# Altium footprint library STEM_PCB.PcbLib: 50 footprints (part 2 of 4)
Each footprint in its own frame and in the unit in brackets; x right, y up, seen from the top. Pads: shape width x height; smd on the part's side, far side on the other; paste and mask are expansions set on the pad; w line width, h text height; cw(c..) or ccw(c..) is an arc to the next point about the centre after c.
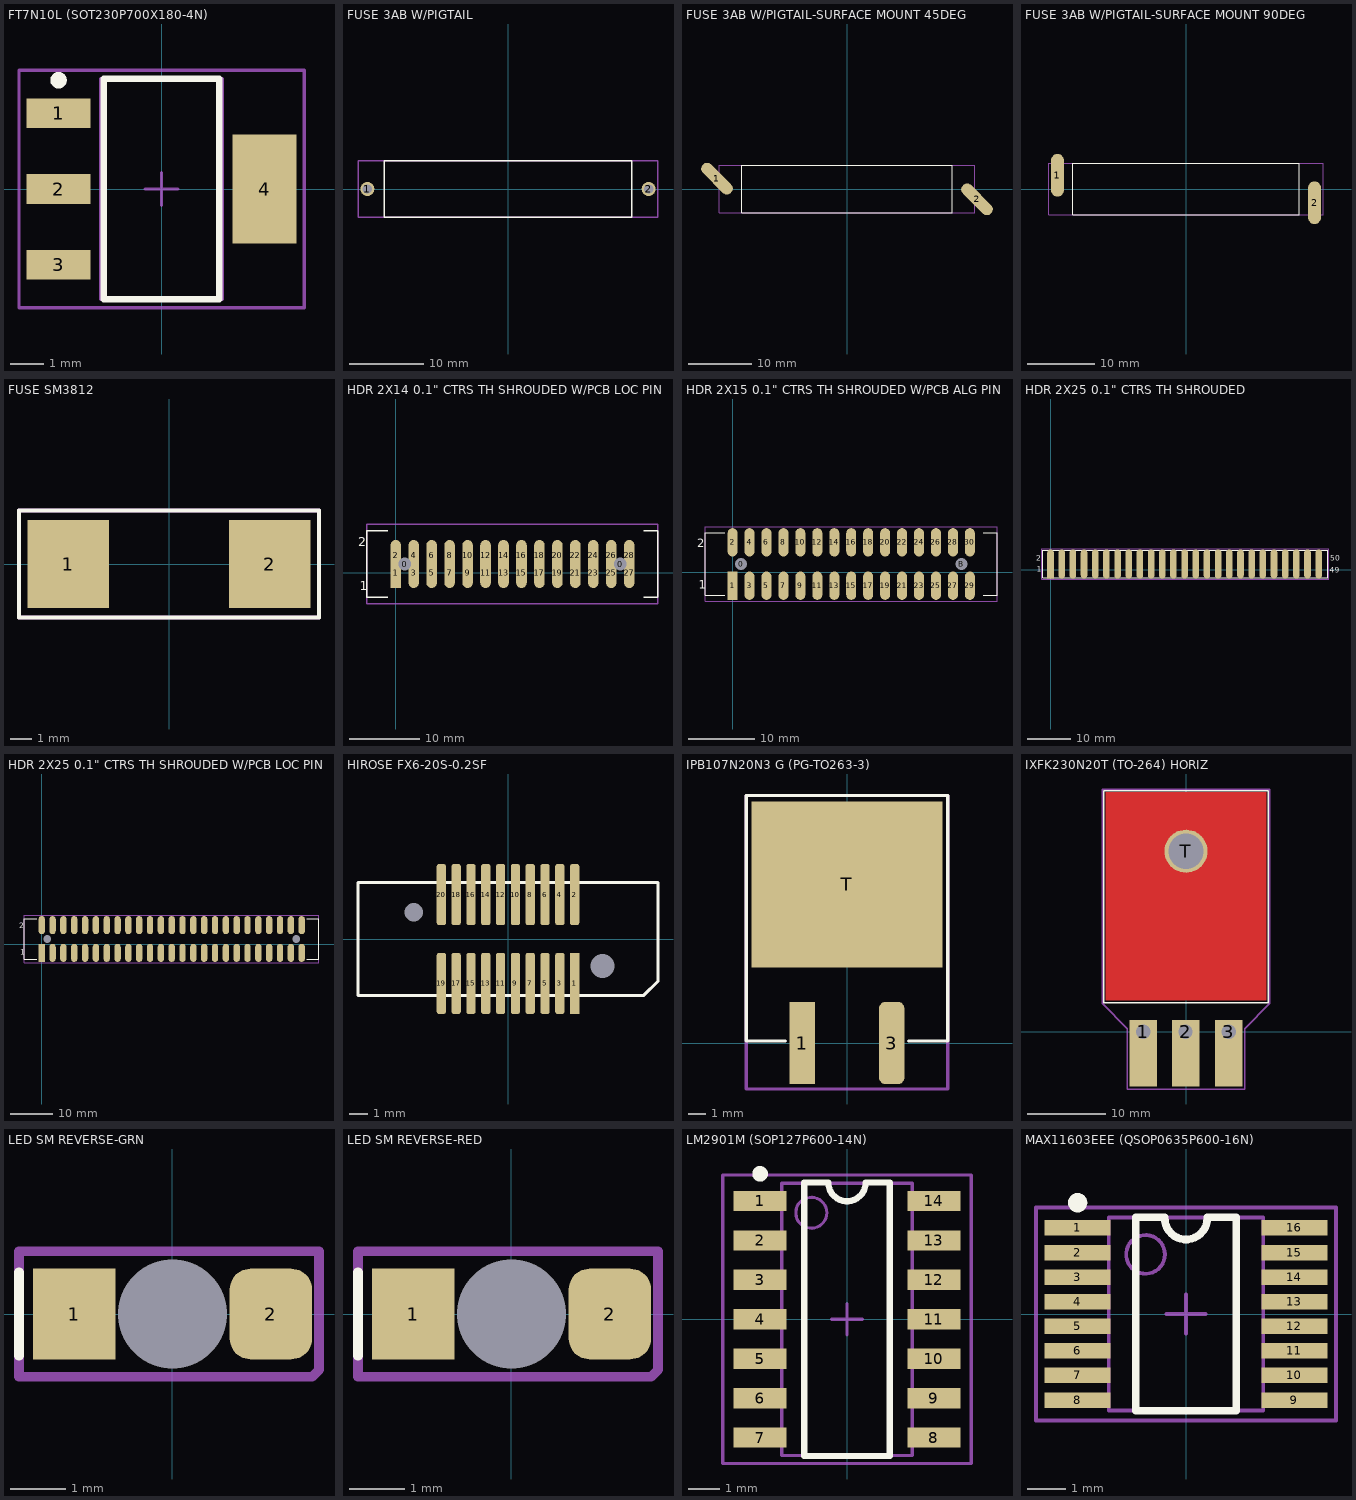
[diagram p1: the footprints below, top view; thin cyan lines are the x and y axes]

## FT7N10L (SOT230P700X180-4N) [mm] "SOT223, 4-Leads, Body 6.7x7.3mm (max), Pitch 2.30mm, IPC Medium Density"
height 1.8
pads (4):
  rect 1.95x0.9 smd: 1(-3.125,2.3) 2(-3.125,0) 3(-3.125,-2.3)
  rect 1.95x3.3 smd: 4(3.125,0)
Top Overlay:
  circle w0.25: c-3.125,3.3 r0.125
  lines w0.2: -1.75,-3.35 -1.75,3.35 1.75,3.35 1.75,-3.35 -1.75,-3.35
Mechanical 13:
  lines w0.1: -1.85,-3.35 -1.85,3.35 1.85,3.35 1.85,-3.35 -1.85,-3.35
Mechanical 15:
  lines w0.1: -0.5,0 0.5,0 ; 0,-0.5 0,0.5 ; -4.325,-3.6 -4.325,3.6 4.325,3.6 4.325,-3.6 -4.325,-3.6
3D body: height 0.35, standoff 0, extent 1.75,-1.5 3.5,1.5
3D body: height 0.35, standoff 0, extent -3.575,1.9 -1.825,2.7
3D body: height 0.35, standoff 0, extent -3.6,-0.4 -1.85,0.4
3D body: height 0.35, standoff 0, extent -3.6,-2.7 -1.85,-1.9
3D body: height 1.8, standoff 0.04, extent -1.85,-3.35 1.85,3.35

## FUSE 3AB W/PIGTAIL [mm] "3AB CARTRIDGE FUSE >20A W/PIGTAIL"
height 7.62
pads (2):
  round 1.905 hole 1.27: 1(-19.05,0) 2(19.05,0)
Top Overlay:
  lines w0.178: -16.764,-3.81 -16.764,3.81 16.764,3.81 16.764,-3.81 -16.764,-3.81
Mechanical 15:
  lines w0.178: -20.32,-3.81 -16.002,-3.81 20.32,-3.81 20.32,3.81 -16.256,3.81 -20.32,3.81 -20.32,-3.81
3D body: height 4.32, standoff 3.31, extent 16.383,-0.507 19.558,0.507
3D body: height 3.81, standoff -3.17, extent 18.546,-0.507 19.558,0.507
3D body: height 3.81, standoff -3.17, extent -19.558,-0.507 -18.546,0.507
3D body: height 4.32, standoff 3.31, extent -19.558,-0.507 -16.383,0.507
3D body: height 7.32, standoff 0.33, extent 13.208,-3.498 16.383,3.498
3D body: height 7.32, standoff 0.33, extent -16.383,-3.498 -13.208,3.498
3D body: height 6.98, standoff 0.66, extent 9.525,-3.169 15.875,3.169
3D body: height 6.98, standoff 0.66, extent -15.875,-3.169 -9.525,3.169
3D body: height 6.73, standoff 0.91, extent -15.875,-2.922 15.875,2.909

## FUSE 3AB W/PIGTAIL-SURFACE MOUNT 45DEG [mil] "3AB CARTRIDGE FUSE >20A W/PIGTAIL SM"
height 300
pads (2):
  oval 75x250 smd rot 45: 1(-815,65) 2(815,-65)
Top Overlay:
  lines w7.01: -660,-150 -660,150 660,150 660,-150 -660,-150
Mechanical 15:
  lines w7.01: -800,-150 -630,-150 800,-150 800,150 -640,150 -800,150 ; -800,-150 -800,150 ; -800,-150 -800,150
3D body: height 170, standoff 130.16, extent 645,-19.96 770,19.96
3D body: height 150, standoff 0, extent 730.16,-19.96 770,19.96
3D body: height 150, standoff 0, extent -770,-19.96 -730.16,19.96
3D body: height 170, standoff 130.16, extent -770,-19.96 -645,19.96
3D body: height 288, standoff 13.09, extent 520.01,-137.72 645.01,137.73
3D body: height 288, standoff 13.09, extent -645,-137.73 -520,137.73
3D body: height 275, standoff 25.99, extent 375,-124.75 625,124.75
3D body: height 275, standoff 25.99, extent -625,-124.75 -375,124.75
3D body: height 265, standoff 35.91, extent -625,-115.02 625,114.53
3D body: height 40, standoff 0.16, extent 726.9,-146.53 896.55,23.12
3D body: height 40, standoff 0.16, extent -896.55,-23.12 -726.9,146.53

## FUSE 3AB W/PIGTAIL-SURFACE MOUNT 90DEG [mil] "3AB CARTRIDGE FUSE >20A W/PIGTAIL SM"
height 300
pads (2):
  oval 75x250 smd: 1(-750,80) 2(750,-80)
Top Overlay:
  lines w7.01: -660,-150 -660,150 660,150 660,-150 -660,-150
Mechanical 15:
  lines w7.01: -800,-150 -630,-150 800,-150 800,150 -640,150 -800,150 ; -800,-150 -800,150 ; -800,-150 -800,150
3D body: height 170, standoff 130.16, extent 645,-19.96 770,19.96
3D body: height 150, standoff 0, extent 730.16,-19.96 770,19.96
3D body: height 150, standoff 0, extent -770,-19.96 -730.16,19.96
3D body: height 170, standoff 130.16, extent -770,-19.96 -645,19.96
3D body: height 288, standoff 13.09, extent 520.01,-137.72 645.01,137.73
3D body: height 288, standoff 13.09, extent -645,-137.73 -520,137.73
3D body: height 275, standoff 25.99, extent 375,-124.75 625,124.75
3D body: height 275, standoff 25.99, extent -625,-124.75 -375,124.75
3D body: height 265, standoff 35.91, extent -625,-115.02 625,114.53
3D body: height 40, standoff 0.16, extent 730.04,-179.99 769.96,20.01
3D body: height 40, standoff 0.16, extent -769.96,-20.01 -730.04,179.99

## FUSE SM3812 [mm]
height 3.2
pads (2):
  rect 3.8x4.1 smd: 1(-4.7,0) 2(4.7,0)
Top Overlay:
  lines w0.178: -7,-2.5 7,-2.5 7,2.5 -7,2.5 -7,-2.5
Mechanical 15:
  lines w0.178: -7,-2.5 -7,2.5 7,2.5 7,-2.5 -7,-2.5
3D body: height 3.2, standoff 0, extent -4.9,-1.6 -2.7,1.6
3D body: height 3, standoff 0.2, extent -2.7,-1.5 2.7,1.5
3D body: height 3.2, standoff 0, extent 2.7,-1.6 4.9,1.6

## HDR 2X14 0.1" CTRS TH SHROUDED W/PCB LOC PIN [mil]
height 425
pads (30):
  round 60 hole 70: 0(50,50) 0(1250,50)
  rect 59.06x167 smd: 1(0,0)
  oval 59.06x167 smd: 2(0,100) 3(100,0) 4(100,100) 5(200,0) 6(200,100) 7(300,0) 8(300,100) 9(400,0) 10(400,100) 11(500,0) 12(500,100) 13(600,0) 14(600,100) 15(700,0) 16(700,100) 17(800,0) 18(800,100) 19(900,0) 20(900,100) 21(1000,0) 22(1000,100) 23(1100,0) 24(1100,100) 25(1200,0) 26(1200,100) 27(1300,0) 28(1300,100)
Top Overlay:
  lines w7: -45,-135 -160,-135 -160,235 -45,235 ; 1380,-135 1460,-135 1460,235 1380,235
  text "2" at -210,150 h50
  text "1" at -200,-95 h50
Mechanical 15:
  lines w7: -160,-170 -160,165 -160,270 1460,270 1460,225 1460,200 1460,-170 -160,-170
3D body: height 340, standoff 0, extent 388,88 412,112
3D body: height 340, standoff 0, extent 288,88 312,112
3D body: height 340, standoff 0, extent 188,88 212,112
3D body: height 340, standoff 0, extent 88,88 112,112
3D body: height 340, standoff 0, extent -12,88 12,112
3D body: height 340, standoff 0, extent 888,88 912,112
3D body: height 340, standoff 0, extent 788,88 812,112
3D body: height 340, standoff 0, extent 688,88 712,112
3D body: height 340, standoff 0, extent 588,88 612,112
3D body: height 340, standoff 0, extent 488,88 512,112
3D body: height 340, standoff 0, extent 1288,88 1312,112
3D body: height 340, standoff 0, extent 1188,88 1212,112
3D body: height 340, standoff 0, extent 1088,88 1112,112
3D body: height 340, standoff 0, extent 988,88 1012,112
3D body: height 340, standoff 0, extent 1288,-12 1312,12
3D body: height 340, standoff 0, extent 1188,-12 1212,12
3D body: height 340, standoff 0, extent 1088,-12 1112,12
3D body: height 340, standoff 0, extent 988,-12 1012,12
3D body: height 340, standoff 0, extent 888,-12 912,12
3D body: height 340, standoff 0, extent 788,-12 812,12
3D body: height 340, standoff 0, extent 688,-12 712,12
3D body: height 340, standoff 0, extent 588,-12 612,12
3D body: height 340, standoff 0, extent 488,-12 512,12
3D body: height 340, standoff 0, extent 388,-12 412,12
3D body: height 340, standoff 0, extent 288,-12 312,12
3D body: height 340, standoff 0, extent 188,-12 212,12
3D body: height 340, standoff 0, extent 88,-12 112,12
3D body: height 185, standoff 75, extent -115,-75 1415,175
3D body: height 75, standoff -135, extent 22.23,22.06 78.01,77.95
3D body: height 75, standoff -135, extent 1222.23,22.06 1278.01,77.95
3D body: height 425, standoff 75, extent 1250,-125 1415,-75
3D body: height 425, standoff 75, extent 1415,-125 1450,-15
3D body: height 425, standoff 75, extent 1250,175 1415,225
3D body: height 425, standoff 75, extent 1417.5,115 1450,225
3D body: height 425, standoff 75, extent -150,-125 -115,-15
3D body: height 425, standoff 75, extent -115,-125 50,-75
3D body: height 425, standoff 75, extent -150,115 -115,225
3D body: height 425, standoff 75, extent -115,175 50,225
3D body: height 24, standoff 0, extent 1288,-145 1312,-12
3D body: height 24, standoff 0, extent 1188,-145 1212,-12
3D body: height 24, standoff 0, extent 1088,-145 1112,-12
3D body: height 24, standoff 0, extent 988,-145 1012,-12
3D body: height 24, standoff 0, extent 888,-145 912,-12
3D body: height 24, standoff 0, extent 788,-145 812,-12
3D body: height 24, standoff 0, extent 688,-145 712,-12
3D body: height 24, standoff 0, extent 588,-145 612,-12
3D body: height 24, standoff 0, extent 488,-145 512,-12
3D body: height 24, standoff 0, extent 388,-145 412,-12
3D body: height 24, standoff 0, extent 288,-145 312,-12
3D body: height 24, standoff 0, extent 188,-145 212,-12
3D body: height 24, standoff 0, extent 88,-145 112,-12
3D body: height 24, standoff 0, extent -12,-145 12,-12
3D body: height 340, standoff 0, extent -12,-12 12,12
3D body: height 24, standoff 0, extent -12,112 12,245
3D body: height 24, standoff 0, extent 88,112 112,245
3D body: height 24, standoff 0, extent 188,112 212,245
3D body: height 24, standoff 0, extent 288,112 312,245
3D body: height 24, standoff 0, extent 388,112 412,245
3D body: height 24, standoff 0, extent 488,112 512,245
3D body: height 24, standoff 0, extent 588,112 612,245
3D body: height 24, standoff 0, extent 688,112 712,245
3D body: height 24, standoff 0, extent 788,112 812,245
3D body: height 24, standoff 0, extent 888,112 912,245
3D body: height 24, standoff 0, extent 988,112 1010,245
3D body: height 24, standoff 0, extent 1088,112 1112,245
3D body: height 24, standoff 0, extent 1188,112 1212,245
3D body: height 24, standoff 0, extent 1288,112 1312,245

## HDR 2X15 0.1" CTRS TH SHROUDED W/PCB ALG PIN [mil]
height 425
pads (32):
  round 60 hole 70 unplated: 0(50,50) B(1350,50)
  rect 59.06x167 smd: 1(0,-78)
  oval 59.06x167 smd: 2(0,178) 3(100,-78) 4(100,178) 5(200,-78) 6(200,178) 7(300,-78) 8(300,178) 9(400,-78) 10(400,178) 11(500,-78) 12(500,178) 13(600,-78) 14(600,178) 15(700,-78) 16(700,178) 17(800,-78) 18(800,178) 19(900,-78) 20(900,178) 21(1000,-78) 22(1000,178) 23(1100,-78) 24(1100,178) 25(1200,-78) 26(1200,178) 27(1300,-78) 28(1300,178) 29(1400,-78) 30(1400,178)
Top Overlay:
  lines w7: -45,-135 -160,-135 -160,235 -45,235 ; 1480,-135 1560,-135 1560,235 1480,235
  text "1" at -200,-95 h50
  text "2" at -210,150 h50
Mechanical 15:
  lines w7: -160,-170 1560,-170 1560,200 1560,225 1560,270 -160,270 -160,165 -160,-170
3D body: height 24, standoff 0, extent 1388,112 1412,245
3D body: height 24, standoff 0, extent 1188,112 1212,245
3D body: height 24, standoff 0, extent 1088,112 1112,245
3D body: height 24, standoff 0, extent 988,112 1010,245
3D body: height 24, standoff 0, extent 888,112 912,245
3D body: height 24, standoff 0, extent 788,112 812,245
3D body: height 24, standoff 0, extent 688,112 712,245
3D body: height 24, standoff 0, extent 588,112 612,245
3D body: height 24, standoff 0, extent 488,112 512,245
3D body: height 24, standoff 0, extent 388,112 412,245
3D body: height 24, standoff 0, extent 288,112 312,245
3D body: height 24, standoff 0, extent 188,112 212,245
3D body: height 24, standoff 0, extent 88,112 112,245
3D body: height 24, standoff 0, extent -12,112 12,245
3D body: height 340, standoff 0, extent -12,-12 12,12
3D body: height 24, standoff 0, extent -12,-145 12,-12
3D body: height 24, standoff 0, extent 88,-145 112,-12
3D body: height 24, standoff 0, extent 188,-145 212,-12
3D body: height 24, standoff 0, extent 288,-145 312,-12
3D body: height 24, standoff 0, extent 388,-145 412,-12
3D body: height 24, standoff 0, extent 488,-145 512,-12
3D body: height 24, standoff 0, extent 588,-145 612,-12
3D body: height 24, standoff 0, extent 688,-145 712,-12
3D body: height 24, standoff 0, extent 788,-145 812,-12
3D body: height 24, standoff 0, extent 888,-145 912,-12
3D body: height 24, standoff 0, extent 988,-145 1012,-12
3D body: height 24, standoff 0, extent 1088,-145 1112,-12
3D body: height 24, standoff 0, extent 1188,-145 1212,-12
3D body: height 24, standoff 0, extent 1388,-145 1412,-12
3D body: height 425, standoff 75, extent -115,175 50,225
3D body: height 425, standoff 75, extent -150,115 -115,225
3D body: height 425, standoff 75, extent -115,-125 50,-75
3D body: height 425, standoff 75, extent -150,-125 -115,-15
3D body: height 425, standoff 75, extent 1515,115 1550,225
3D body: height 425, standoff 75, extent 1350,175 1515,225
3D body: height 425, standoff 75, extent 1515,-125 1550,-15
3D body: height 425, standoff 75, extent 1350,-125 1515,-75
3D body: height 75, standoff -135, extent 1322.23,22.06 1378.01,77.95
3D body: height 75, standoff -135, extent 22.23,22.06 78.01,77.95
3D body: height 185, standoff 75, extent -115,-75 1515,175
3D body: height 340, standoff 0, extent 88,-12 112,12
3D body: height 340, standoff 0, extent 188,-12 212,12
3D body: height 340, standoff 0, extent 288,-12 312,12
3D body: height 340, standoff 0, extent 388,-12 412,12
3D body: height 340, standoff 0, extent 488,-12 512,12
3D body: height 340, standoff 0, extent 588,-12 612,12
3D body: height 340, standoff 0, extent 688,-12 712,12
3D body: height 340, standoff 0, extent 788,-12 812,12
3D body: height 340, standoff 0, extent 888,-12 912,12
3D body: height 340, standoff 0, extent 988,-12 1012,12
3D body: height 340, standoff 0, extent 1088,-12 1112,12
3D body: height 340, standoff 0, extent 1188,-12 1212,12
3D body: height 340, standoff 0, extent 1388,-12 1412,12
3D body: height 340, standoff 0, extent 988,88 1012,112
3D body: height 340, standoff 0, extent 1088,88 1112,112
3D body: height 340, standoff 0, extent 1188,88 1212,112
3D body: height 340, standoff 0, extent 1388,88 1412,112
3D body: height 340, standoff 0, extent 488,88 512,112
3D body: height 340, standoff 0, extent 588,88 612,112
3D body: height 340, standoff 0, extent 688,88 712,112
3D body: height 340, standoff 0, extent 788,88 812,112
3D body: height 340, standoff 0, extent 888,88 912,112
3D body: height 340, standoff 0, extent -12,88 12,112
3D body: height 340, standoff 0, extent 88,88 112,112
3D body: height 340, standoff 0, extent 188,88 212,112
3D body: height 340, standoff 0, extent 288,88 312,112
3D body: height 340, standoff 0, extent 388,88 412,112
3D body: height 340, standoff 0, extent 1288,88 1312,112
3D body: height 340, standoff 0, extent 1288,-12 1312,12
3D body: height 24, standoff 0, extent 1288,-145 1312,-12
3D body: height 24, standoff 0, extent 1288,112 1312,245

## HDR 2X25 0.1" CTRS TH SHROUDED [mm]
height 7.62
pads (50):
  rect 1.5x4.064 smd: 1(0,0)
  oval 1.5x4.064 smd: 2(0,2.54) 3(2.54,0) 4(2.54,2.54) 5(5.08,0) 6(5.08,2.54) 7(7.62,0) 8(7.62,2.54) 9(10.16,0) 10(10.16,2.54) 11(12.7,0) 12(12.7,2.54) 13(15.24,0) 14(15.24,2.54) 15(17.78,0) 16(17.78,2.54) 17(20.32,0) 18(20.32,2.54) 19(22.86,0) 20(22.86,2.54) 21(25.4,0) 22(25.4,2.54) 23(27.94,0) 24(27.94,2.54) 25(30.48,0) 26(30.48,2.54) 27(33.02,0) 28(33.02,2.54) 29(35.56,0) 30(35.56,2.54) 31(38.1,0) 32(38.1,2.54) 33(40.64,0) 34(40.64,2.54) 35(43.18,0) 36(43.18,2.54) 37(45.72,0) 38(45.72,2.54) 39(48.26,0) 40(48.26,2.54) 41(50.8,0) 42(50.8,2.54) 43(53.34,0) 44(53.34,2.54) 45(55.88,0) 46(55.88,2.54) 47(58.42,0) 48(58.42,2.54) 49(60.96,0) 50(60.96,2.54)
Top Overlay:
  lines w0.2: -1.778,-1.905 62.992,-1.905 62.992,4.445 -1.778,4.445 -1.778,-1.905
  text "50" at 63.627,2.032 h1.27
  text "49" at 63.5,-0.762 h1.27
  text "1" at -3.175,-0.508 h1.27
  text "2" at -3.302,2.032 h1.27
Mechanical 15:
  lines w0.178: -2.032,-2.159 -2.032,4.699 63.246,4.699 63.246,-2.159 -2.032,-2.159
3D body: height 7.62, standoff 2.54, extent 33.147,-1.778 62.357,-1.27
3D body: height 7.62, standoff 2.54, extent -1.143,-1.778 28.067,-1.27
3D body: height 8.89, standoff 4.44, extent -1.143,3.81 62.357,4.318
3D body: height 7.62, standoff 2.54, extent 62.357,-1.778 62.865,4.318
3D body: height 7.62, standoff 2.54, extent -1.651,-1.778 -1.143,4.318
3D body: height 4.44, standoff 1.91, extent -1.651,-1.778 62.865,4.318
3D body: height 8.64, standoff 0, extent 2.235,-0.305 2.845,0.305
3D body: height 0.61, standoff 0, extent 2.235,-2.667 2.845,-0.305
3D body: height 0.61, standoff 0, extent -0.305,-2.692 0.305,-0.33
3D body: height 8.64, standoff 0, extent -0.305,-0.33 0.305,0.28
3D body: height 0.61, standoff 0, extent 4.775,-2.667 5.385,-0.305
3D body: height 8.64, standoff 0, extent 4.775,-0.305 5.385,0.305
3D body: height 0.61, standoff 0, extent 7.315,-2.667 7.925,-0.305
3D body: height 8.64, standoff 0, extent 7.315,-0.305 7.925,0.305
3D body: height 0.61, standoff 0, extent 9.855,-2.667 10.465,-0.305
3D body: height 8.64, standoff 0, extent 9.855,-0.305 10.465,0.305
3D body: height 0.61, standoff 0, extent 12.395,-2.667 13.005,-0.305
3D body: height 8.64, standoff 0, extent 12.395,-0.305 13.005,0.305
3D body: height 0.61, standoff 0, extent 14.935,-2.667 15.545,-0.305
3D body: height 8.64, standoff 0, extent 14.935,-0.305 15.545,0.305
3D body: height 0.61, standoff 0, extent 17.475,-2.667 18.085,-0.305
3D body: height 8.64, standoff 0, extent 17.475,-0.305 18.085,0.305
3D body: height 0.61, standoff 0, extent 20.015,-2.667 20.625,-0.305
3D body: height 8.64, standoff 0, extent 20.015,-0.305 20.625,0.305
3D body: height 0.61, standoff 0, extent 22.555,-2.667 23.165,-0.305
3D body: height 8.64, standoff 0, extent 22.555,-0.305 23.165,0.305
3D body: height 0.61, standoff 0, extent 25.095,-2.667 25.705,-0.305
3D body: height 8.64, standoff 0, extent 25.095,-0.305 25.705,0.305
3D body: height 0.61, standoff 0, extent 27.635,-2.667 28.245,-0.305
3D body: height 8.64, standoff 0, extent 27.635,-0.305 28.245,0.305
3D body: height 0.61, standoff 0, extent 30.175,-2.667 30.785,-0.305
3D body: height 8.64, standoff 0, extent 30.175,-0.305 30.785,0.305
3D body: height 0.61, standoff 0, extent 32.715,-2.667 33.325,-0.305
3D body: height 8.64, standoff 0, extent 32.715,-0.305 33.325,0.305
3D body: height 0.61, standoff 0, extent 35.255,-2.667 35.865,-0.305
3D body: height 8.64, standoff 0, extent 35.255,-0.305 35.865,0.305
3D body: height 0.61, standoff 0, extent 37.795,-2.667 38.405,-0.305
3D body: height 8.64, standoff 0, extent 37.795,-0.305 38.405,0.305
3D body: height 0.61, standoff 0, extent 40.335,-2.667 40.945,-0.305
3D body: height 8.64, standoff 0, extent 40.335,-0.305 40.945,0.305
3D body: height 0.61, standoff 0, extent 42.875,-2.667 43.485,-0.305
3D body: height 8.64, standoff 0, extent 42.875,-0.305 43.485,0.305
3D body: height 0.61, standoff 0, extent 45.415,-2.667 46.025,-0.305
3D body: height 8.64, standoff 0, extent 45.415,-0.305 46.025,0.305
3D body: height 0.61, standoff 0, extent 47.955,-2.667 48.565,-0.305
3D body: height 8.64, standoff 0, extent 47.955,-0.305 48.565,0.305
3D body: height 0.61, standoff 0, extent 50.495,-2.667 51.105,-0.305
3D body: height 8.64, standoff 0, extent 50.495,-0.305 51.105,0.305
3D body: height 0.61, standoff 0, extent 53.035,-2.667 53.645,-0.305
3D body: height 8.64, standoff 0, extent 53.035,-0.305 53.645,0.305
3D body: height 0.61, standoff 0, extent 55.575,-2.667 56.185,-0.305
3D body: height 8.64, standoff 0, extent 55.575,-0.305 56.185,0.305
3D body: height 0.61, standoff 0, extent 58.115,-2.667 58.725,-0.305
3D body: height 8.64, standoff 0, extent 58.115,-0.305 58.725,0.305
3D body: height 0.61, standoff 0, extent 60.655,-2.667 61.265,-0.305
3D body: height 8.64, standoff 0, extent 60.655,-0.305 61.265,0.305
3D body: height 0.61, standoff 0, extent 60.655,2.845 61.265,5.207
3D body: height 8.64, standoff 0, extent 60.655,2.235 61.265,2.845
3D body: height 8.64, standoff 0, extent 58.115,2.235 58.725,2.845
3D body: height 0.61, standoff 0, extent 58.115,2.845 58.725,5.207
3D body: height 8.64, standoff 0, extent 55.575,2.235 56.185,2.845
3D body: height 0.61, standoff 0, extent 55.575,2.845 56.185,5.207
3D body: height 8.64, standoff 0, extent 53.035,2.235 53.645,2.845
3D body: height 0.61, standoff 0, extent 53.035,2.845 53.645,5.207
3D body: height 8.64, standoff 0, extent 50.495,2.235 51.105,2.845
3D body: height 0.61, standoff 0, extent 50.495,2.845 51.105,5.207
3D body: height 0.61, standoff 0, extent 37.795,2.845 38.405,5.207
3D body: height 8.64, standoff 0, extent 37.795,2.235 38.405,2.845
3D body: height 0.61, standoff 0, extent 40.335,2.845 40.945,5.207
3D body: height 8.64, standoff 0, extent 40.335,2.235 40.945,2.845
3D body: height 0.61, standoff 0, extent 42.875,2.845 43.485,5.207
3D body: height 8.64, standoff 0, extent 42.875,2.235 43.485,2.845
3D body: height 0.61, standoff 0, extent 45.415,2.845 46.025,5.207
3D body: height 8.64, standoff 0, extent 45.415,2.235 46.025,2.845
3D body: height 8.64, standoff 0, extent 47.955,2.235 48.565,2.845
3D body: height 0.61, standoff 0, extent 47.955,2.845 48.565,5.207
3D body: height 0.61, standoff 0, extent 25.095,2.845 25.705,5.207
3D body: height 8.64, standoff 0, extent 25.095,2.235 25.705,2.845
3D body: height 0.61, standoff 0, extent 27.635,2.845 28.245,5.207
3D body: height 8.64, standoff 0, extent 27.635,2.235 28.245,2.845
3D body: height 0.61, standoff 0, extent 30.175,2.845 30.785,5.207
3D body: height 8.64, standoff 0, extent 30.175,2.235 30.785,2.845
3D body: height 0.61, standoff 0, extent 32.715,2.845 33.325,5.207
3D body: height 8.64, standoff 0, extent 32.715,2.235 33.325,2.845
3D body: height 8.64, standoff 0, extent 35.255,2.235 35.865,2.845
3D body: height 0.61, standoff 0, extent 35.255,2.845 35.865,5.207
3D body: height 0.61, standoff 0, extent 12.395,2.845 13.005,5.207
3D body: height 8.64, standoff 0, extent 12.395,2.235 13.005,2.845
3D body: height 0.61, standoff 0, extent 14.935,2.845 15.545,5.207
3D body: height 8.64, standoff 0, extent 14.935,2.235 15.545,2.845
3D body: height 0.61, standoff 0, extent 17.475,2.845 18.085,5.207
3D body: height 8.64, standoff 0, extent 17.475,2.235 18.085,2.845
3D body: height 0.61, standoff 0, extent 20.015,2.845 20.625,5.207
3D body: height 8.64, standoff 0, extent 20.015,2.235 20.625,2.845
3D body: height 8.64, standoff 0, extent 22.555,2.235 23.165,2.845
3D body: height 0.61, standoff 0, extent 22.555,2.845 23.165,5.207
3D body: height 0.61, standoff 0, extent -0.305,2.845 0.305,5.207
3D body: height 8.64, standoff 0, extent -0.305,2.235 0.305,2.845
3D body: height 0.61, standoff 0, extent 2.235,2.845 2.845,5.207
3D body: height 8.64, standoff 0, extent 2.235,2.235 2.845,2.845
3D body: height 0.61, standoff 0, extent 4.775,2.845 5.385,5.207
3D body: height 8.64, standoff 0, extent 4.775,2.235 5.385,2.845
3D body: height 0.61, standoff 0, extent 7.315,2.845 7.925,5.207
3D body: height 8.64, standoff 0, extent 7.315,2.235 7.925,2.845
3D body: height 8.64, standoff 0, extent 9.855,2.235 10.465,2.845
3D body: height 0.61, standoff 0, extent 9.855,2.845 10.465,5.207

## HDR 2X25 0.1" CTRS TH SHROUDED W/PCB LOC PIN [mil]
height 300
pads (52):
  rect 59.06x167 smd: 1(0,-78)
  oval 59.06x167 smd: 2(0,178) 3(100,-78) 4(100,178) 5(200,-78) 6(200,178) 7(300,-78) 8(300,178) 9(400,-78) 10(400,178) 11(500,-78) 12(500,178) 13(600,-78) 14(600,178) 15(700,-78) 16(700,178) 17(800,-78) 18(800,178) 19(900,-78) 20(900,178) 21(1000,-78) 22(1000,178) 23(1100,-78) 24(1100,178) 25(1200,-78) 26(1200,178) 27(1300,-78) 28(1300,178) 29(1400,-78) 30(1400,178) 31(1500,-78) 32(1500,178) 33(1600,-78) 34(1600,178) 35(1700,-78) 36(1700,178) 37(1800,-78) 38(1800,178) 39(1900,-78) 40(1900,178) 41(2000,-78) 42(2000,178) 43(2100,-78) 44(2100,178) 45(2200,-78) 46(2200,178) 47(2300,-78) 48(2300,178) 49(2400,-78) 50(2400,178)
  round 60 hole 70 unplated: A(50,50) B(2350,50)
Top Overlay:
  lines w7: -45,-135 -160,-135 -160,235 -45,235 ; 2445,-135 2560,-135 ; 2445,235 2560,235
  lines w7.87: 2560,-135 2560,235
  text "2" at -210,150 h50
  text "1" at -200,-95 h50
Mechanical 15:
  lines w7: -160,-170 -160,165 -160,270 2560,270 2560,260 2560,235 2560,-170 -160,-170
3D body: height 340, standoff 0, extent 388,88 412,112
3D body: height 340, standoff 0, extent 288,88 312,112
3D body: height 340, standoff 0, extent 188,88 212,112
3D body: height 340, standoff 0, extent 88,88 112,112
3D body: height 340, standoff 0, extent -12,88 12,112
3D body: height 340, standoff 0, extent 888,88 912,112
3D body: height 340, standoff 0, extent 788,88 812,112
3D body: height 340, standoff 0, extent 688,88 712,112
3D body: height 340, standoff 0, extent 588,88 612,112
3D body: height 340, standoff 0, extent 488,88 512,112
3D body: height 340, standoff 0, extent 1388,88 1412,112
3D body: height 340, standoff 0, extent 1288,88 1312,112
3D body: height 340, standoff 0, extent 1188,88 1212,112
3D body: height 340, standoff 0, extent 1088,88 1112,112
3D body: height 340, standoff 0, extent 988,88 1012,112
3D body: height 340, standoff 0, extent 1888,88 1912,112
3D body: height 340, standoff 0, extent 1788,88 1812,112
3D body: height 340, standoff 0, extent 1688,88 1712,112
3D body: height 340, standoff 0, extent 1588,88 1612,112
3D body: height 340, standoff 0, extent 1488,88 1512,112
3D body: height 340, standoff 0, extent 1988,88 2012,112
3D body: height 340, standoff 0, extent 2088,88 2112,112
3D body: height 340, standoff 0, extent 2188,88 2212,112
3D body: height 340, standoff 0, extent 2288,88 2312,112
3D body: height 340, standoff 0, extent 2388,88 2412,112
3D body: height 340, standoff 0, extent 2388,-12 2412,12
3D body: height 340, standoff 0, extent 2288,-12 2312,12
3D body: height 340, standoff 0, extent 2188,-12 2212,12
3D body: height 340, standoff 0, extent 2088,-12 2112,12
3D body: height 340, standoff 0, extent 1988,-12 2012,12
3D body: height 340, standoff 0, extent 1888,-12 1912,12
3D body: height 340, standoff 0, extent 1788,-12 1812,12
3D body: height 340, standoff 0, extent 1688,-12 1712,12
3D body: height 24, standoff 0, extent 1688,-145 1712,-12
3D body: height 340, standoff 0, extent 1588,-12 1612,12
3D body: height 340, standoff 0, extent 1488,-12 1512,12
3D body: height 340, standoff 0, extent 1388,-12 1412,12
3D body: height 340, standoff 0, extent 1288,-12 1312,12
3D body: height 340, standoff 0, extent 1188,-12 1212,12
3D body: height 340, standoff 0, extent 1088,-12 1112,12
3D body: height 340, standoff 0, extent 988,-12 1012,12
3D body: height 340, standoff 0, extent 888,-12 912,12
3D body: height 340, standoff 0, extent 788,-12 812,12
3D body: height 340, standoff 0, extent 688,-12 712,12
3D body: height 340, standoff 0, extent 588,-12 612,12
3D body: height 340, standoff 0, extent 488,-12 512,12
3D body: height 340, standoff 0, extent 388,-12 412,12
3D body: height 340, standoff 0, extent 288,-12 312,12
3D body: height 340, standoff 0, extent 188,-12 212,12
3D body: height 340, standoff 0, extent 88,-12 112,12
3D body: height 185, standoff 75, extent -115,-75 2515,175
3D body: height 75, standoff -135, extent 22.23,22.06 78.01,77.95
3D body: height 75, standoff -135, extent 2322.23,22.06 2378.01,77.95
3D body: height 425, standoff 75, extent 2350,-125 2515,-75
3D body: height 425, standoff 75, extent 2515,-125 2550,-15
3D body: height 425, standoff 75, extent 2350,175 2515,225
3D body: height 425, standoff 75, extent 2515,115 2550,225
3D body: height 425, standoff 75, extent -150,-125 -115,-15
3D body: height 425, standoff 75, extent -115,-125 50,-75
3D body: height 425, standoff 75, extent -150,115 -115,225
3D body: height 425, standoff 75, extent -115,175 50,225
3D body: height 24, standoff 0, extent 1588,-145 1612,-12
3D body: height 24, standoff 0, extent 1488,-145 1512,-12
3D body: height 24, standoff 0, extent 1388,-145 1412,-12
3D body: height 24, standoff 0, extent 1288,-145 1312,-12
3D body: height 24, standoff 0, extent 1188,-145 1212,-12
3D body: height 24, standoff 0, extent 1088,-145 1112,-12
3D body: height 24, standoff 0, extent 988,-145 1012,-12
3D body: height 24, standoff 0, extent 888,-145 912,-12
3D body: height 24, standoff 0, extent 788,-145 812,-12
3D body: height 24, standoff 0, extent 688,-145 712,-12
3D body: height 24, standoff 0, extent 588,-145 612,-12
3D body: height 24, standoff 0, extent 488,-145 512,-12
3D body: height 24, standoff 0, extent 388,-145 412,-12
3D body: height 24, standoff 0, extent 288,-145 312,-12
3D body: height 24, standoff 0, extent 188,-145 212,-12
3D body: height 24, standoff 0, extent 88,-145 112,-12
3D body: height 24, standoff 0, extent -12,-145 12,-12
3D body: height 340, standoff 0, extent -12,-12 12,12
3D body: height 24, standoff 0, extent 1788,-145 1812,-12
3D body: height 24, standoff 0, extent 1888,-145 1912,-12
3D body: height 24, standoff 0, extent 1988,-145 2012,-12
3D body: height 24, standoff 0, extent 2088,-145 2112,-12
3D body: height 24, standoff 0, extent 2188,-145 2212,-12
3D body: height 24, standoff 0, extent 2288,-145 2312,-12
3D body: height 24, standoff 0, extent 2388,-145 2412,-12
3D body: height 24, standoff 0, extent 2388,112 2412,245
3D body: height 24, standoff 0, extent 2288,112 2312,245
3D body: height 24, standoff 0, extent 2188,112 2212,245
3D body: height 24, standoff 0, extent 2088,112 2112,245
3D body: height 24, standoff 0, extent 1988,112 2012,245
3D body: height 24, standoff 0, extent 1888,112 1912,245
3D body: height 24, standoff 0, extent 1788,112 1812,245
3D body: height 24, standoff 0, extent -12,112 12,245
3D body: height 24, standoff 0, extent 88,112 112,245
3D body: height 24, standoff 0, extent 188,112 212,245
3D body: height 24, standoff 0, extent 288,112 312,245
3D body: height 24, standoff 0, extent 388,112 412,245
3D body: height 24, standoff 0, extent 488,112 512,245
3D body: height 24, standoff 0, extent 588,112 612,245
3D body: height 24, standoff 0, extent 688,112 712,245
3D body: height 24, standoff 0, extent 788,112 812,245
3D body: height 24, standoff 0, extent 888,112 912,245
3D body: height 24, standoff 0, extent 988,112 1010,245
3D body: height 24, standoff 0, extent 1088,112 1112,245
3D body: height 24, standoff 0, extent 1188,112 1212,245
3D body: height 24, standoff 0, extent 1288,112 1312,245
3D body: height 24, standoff 0, extent 1388,112 1412,245
3D body: height 24, standoff 0, extent 1488,112 1512,245
3D body: height 24, standoff 0, extent 1588,112 1612,245
3D body: height 24, standoff 0, extent 1688,112 1712,245

## HIROSE FX6-20S-0.2SF [mm]
height 4
pads (22):
  round 0 hole 1 unplated: 0(-5.1,1.45)
  round 0 hole 1.3 unplated: 0(5.1,-1.45)
  rect 0.5x3.3 smd: 1(3.6,-2.4)
  rrect50% 0.5x3.3 smd: 2(3.6,2.4) 3(2.8,-2.4) 4(2.8,2.4) 5(2,-2.4) 6(2,2.4) 7(1.2,-2.4) 8(1.2,2.4) 9(0.4,-2.4) 10(0.4,2.4) 11(-0.4,-2.4) 12(-0.4,2.4) 13(-1.2,-2.4) 14(-1.2,2.4) 15(-2,-2.4) 16(-2,2.4) 17(-2.8,-2.4) 18(-2.8,2.4) 19(-3.6,-2.4) 20(-3.6,2.4)
Top Overlay:
  lines w0.178: -8.1,-3.05 7.325,-3.05 8.1,-2.275 8.1,3.05 -8.1,3.05 -8.1,-3.05
3D body: height 0, standoff -0.8, extent -5.546,1.001 -4.65,1.899
3D body: height 0, standoff -0.8, extent 4.505,-2.049 5.7,-0.851
3D body: height 4, standoff 0, extent -7.9,-2.875 7.9,2.875

## IPB107N20N3 G (PG-TO263-3) [mm]
height 4.57
pads (3):
  rect 1.45x4.7 smd: 1(-2.55,0)
  rrect50% 1.45x4.7 smd: 3(2.55,0)
  rect 10.9x9.5 smd: T(0,9.05)
Top Overlay:
  lines w0.178: -3.5,0.125 -5.75,0.125 -5.75,14.125 5.75,14.125 5.75,0.125 3.5,0.125
Mechanical 15:
  lines w0.178: -5.75,-2.625 -5.75,14.125 5.75,14.125 5.75,-2.625 -5.75,-2.625
3D body: height 4.57, standoff 0, extent -5.175,2.9 5.15,12.375
3D body: height 1.4, standoff 0, extent -5.175,12.375 5.15,13.525
3D body: height 0.65, standoff 0, extent -3.125,-0.85 -2.025,2.9
3D body: height 0.65, standoff 0, extent 2,-0.85 3.1,2.9

## IXFK230N20T (TO-264) HORIZ [mm] "IXFK230N20T TO-264 MOSFET LAID FLAT"
height 5.21
pads (4):
  rect 3.5x8.5 hole 1.8 copper offset 0,-2.75: 1(-5.45,0) 2(-0.05,0) 3(5.45,0)
  round 5.5 hole 4.5: T(0,23)
Top Layer:
  region: -10.25,4 -10.25,30.5 10.25,30.5 10.25,4
Top Overlay:
  lines w0.178: -10.5,3.7 10.5,3.7 10.5,30.725 -10.5,30.725 -10.5,3.7
Mechanical 15:
  lines w0.178: -10.7,3.6 -10.7,30.925 10.7,30.925 10.7,3.6 7.5,0.4 7.5,-7.3 -7.5,-7.3 -7.5,0.4 -10.7,3.6
3D body: height 3.84, standoff 3, extent -6.1,-4.8 -4.8,1.3
3D body: height 3.84, standoff 3, extent 4.8,-4.8 6.1,1.3
3D body: height 3.84, standoff 3, extent -0.65,-4.8 0.65,1.3
3D body: height 3.84, standoff 3, extent 4.075,1.3 6.775,4
3D body: height 3.84, standoff 3, extent -6.8,1.3 -4.1,4
3D body: height 3.84, standoff 3, extent -1.35,1.3 1.35,4
3D body: height 5.21, standoff 0, extent -10.25,4 10.25,30.5
3D body: height 5.25, standoff 0, extent -1.726,21.264 1.74,24.737

## LED SM REVERSE-GRN [mil]
pads (3):
  round 0 hole 78 unplated: 0(0,0)
  rect 59x65 smd: 1(-70.5,0)
  rrect50% 59x65 smd: 2(70.5,0)
Top Overlay:
  lines w7: -110,-30 -110,30
Mechanical 15:
  lines w7: -110,-45 -110,45 105,45 105,-40 100,-45 -110,-45
3D body: height 12, standoff 0, extent -63,-31 63,31
3D body: height 0, standoff -43, extent -31.24,-31.43 31.51,31.44

## LED SM REVERSE-RED [mil]
pads (3):
  round 0 hole 78 unplated: 0(0,0)
  rect 59x65 smd: 1(-70.5,0)
  rrect50% 59x65 smd: 2(70.5,0)
Top Overlay:
  lines w7: -110,-30 -110,30
Mechanical 15:
  lines w7: -110,-45 100,-45 105,-40 105,45 -110,45 -110,-45
3D body: height 0, standoff -43, extent -31.24,-31.43 31.51,31.44
3D body: height 12, standoff 0, extent -63,-31 63,31

## LM2901M (SOP127P600-14N) [mm] "LM2901M SOP-14"
height 1.65
pads (14):
  rect 1.7x0.65 smd: 1(-2.8,3.81) 2(-2.8,2.54) 3(-2.8,1.27) 4(-2.8,0) 5(-2.8,-1.27) 6(-2.8,-2.54) 7(-2.8,-3.81) 8(2.8,-3.81) 9(2.8,-2.54) 10(2.8,-1.27) 11(2.8,0) 12(2.8,1.27) 13(2.8,2.54) 14(2.8,3.81)
Top Overlay:
  circle w0.25: c-2.8,4.685 r0.125
  lines w0.2: -1.375,-4.4 1.375,-4.4 1.375,4.4 0.6,4.4 cw(c0,4.4) -0.6,4.4 -1.375,4.4 -1.375,-4.4
Mechanical 13:
  circle w0.1: c-1.15,3.43 r0.5
  lines w0.1: -2.1,-4.38 2.1,-4.38 2.1,4.38 -2.1,4.38 -2.1,-4.38
Mechanical 15:
  lines w0.1: -0.5,0 0.5,0 ; 0,-0.5 0,0.5 ; -4,-4.65 4,-4.65 4,4.65 -4,4.65 -4,-4.65
3D body: height 0.3, standoff 0, extent -3,3.55 -2.1,4.05
3D body: height 0.3, standoff 0, extent -3,2.3 -2.1,2.8
3D body: height 0.3, standoff 0, extent -3,1.025 -2.1,1.525
3D body: height 0.3, standoff 0, extent -3,-0.25 -2.1,0.25
3D body: height 0.3, standoff 0, extent -3,-1.525 -2.1,-1.025
3D body: height 0.3, standoff 0, extent -3,-2.8 -2.1,-2.3
3D body: height 0.3, standoff 0, extent -3,-4.05 -2.1,-3.55
3D body: height 0.3, standoff 0, extent 2.1,-4.05 3,-3.55
3D body: height 0.3, standoff 0, extent 2.1,-2.775 3,-2.275
3D body: height 0.3, standoff 0, extent 2.1,-1.525 3,-1.025
3D body: height 0.3, standoff 0, extent 2.1,-0.25 3,0.25
3D body: height 0.3, standoff 0, extent 2.1,1.025 3,1.525
3D body: height 0.3, standoff 0, extent 2.1,2.3 3,2.8
3D body: height 0.3, standoff 0, extent 2.1,3.55 3,4.05
3D body: height 1.65, standoff 0.05, extent -2.1,-4.38 2.1,4.38

## MAX11603EEE (QSOP0635P600-16N) [mm]
height 1.651
pads (16):
  rect 1.7x0.4 smd: 1(-2.8,2.222) 2(-2.8,1.587) 3(-2.8,0.953) 4(-2.8,0.318) 5(-2.8,-0.318) 6(-2.8,-0.953) 7(-2.8,-1.587) 8(-2.8,-2.222) 9(2.8,-2.222) 10(2.8,-1.587) 11(2.8,-0.953) 12(2.8,-0.318) 13(2.8,0.318) 14(2.8,0.953) 15(2.8,1.587) 16(2.8,2.222)
Top Overlay:
  circle w0.25: c-2.8,2.875 r0.125
  lines w0.2: -0.552,2.5 -1.3,2.5 -1.3,-2.5 1.3,-2.5 1.3,2.5 ; -0.55,2.498 ccw(c0,2.475) 0.549,2.499 1.299,2.499
Mechanical 13:
  circle w0.1: c-1.045,1.54 r0.5
  lines w0.1: -1.995,-2.49 -1.995,2.49 1.995,2.49 1.995,-2.49 -1.995,-2.49
Mechanical 15:
  lines w0.1: -0.5,0 0.5,0 ; 0,-0.5 0,0.5 ; -3.875,-2.75 -3.875,2.75 3.875,2.75 3.875,-2.75 -3.875,-2.75
3D body: height 0.25, standoff 0, extent 2.025,2.075 3.1,2.375
3D body: height 0.25, standoff 0, extent 2.025,1.425 3.1,1.725
3D body: height 0.25, standoff 0, extent 2.025,0.8 3.1,1.1
3D body: height 0.25, standoff 0, extent 2.025,0.175 3.1,0.475
3D body: height 0.25, standoff 0, extent 2.025,-0.475 3.1,-0.175
3D body: height 0.25, standoff 0, extent 2.025,-1.1 3.1,-0.8
3D body: height 0.25, standoff 0, extent 2.025,-1.75 3.1,-1.45
3D body: height 0.25, standoff 0, extent 2.025,-2.375 3.1,-2.075
3D body: height 0.25, standoff 0, extent -3.112,-2.375 -2.037,-2.075
3D body: height 0.25, standoff 0, extent -3.112,-1.75 -2.037,-1.45
3D body: height 0.25, standoff 0, extent -3.112,-1.1 -2.037,-0.8
3D body: height 0.25, standoff 0, extent -3.112,-0.475 -2.037,-0.175
3D body: height 0.25, standoff 0, extent -3.1,0.175 -2.025,0.475
3D body: height 0.25, standoff 0, extent -3.1,0.8 -2.025,1.1
3D body: height 0.25, standoff 0, extent -3.1,1.45 -2.025,1.75
3D body: height 0.25, standoff 0, extent -3.1,2.075 -2.025,2.375
3D body: height 1.65, standoff 0.1, extent -1.995,-2.49 1.995,2.49